# Altium schematic symbol library Bosch_Sensor.SchLib: 2 symbols
Pins are listed as number, name and electrical type; pins without a type are passive.

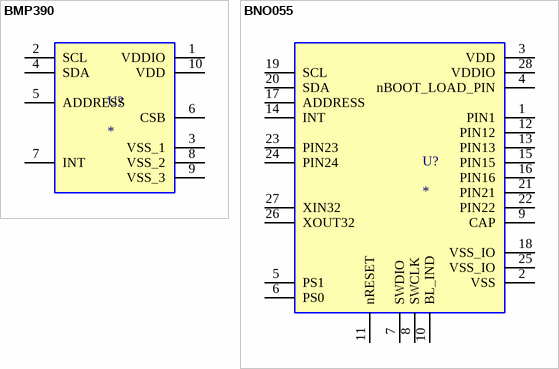
[diagram p0: symbols BMP390 to BNO055]

## BMP390
designator U?
SENSOR 18.13PSIA 10LGA; Manufacturer_Name: BOSCH; Manufacturer_Part_Number: BMP390; Description: Board Mount Pressure Sensors; Datasheet Link: https://www.bosch-sensortec.com/media/boschsensortec/downloads/datasheets/bst-bmp390-ds002.pdf; Height: 0.8mm; Mouser Part Number: 262-BMP390; Mouser Price/Stock: https://www.mouser.co.uk/ProductDetail/Bosch-Sensortec/BMP390?qs=QNEnbhJQKvYQVfvRMgo2YA%3D%3D; Arrow Part Number: BMP390; Arrow Price/Stock: https://www.arrow.com/en/products/bmp390/bosch-sensortec?utm_currency=USD&region=nac
pins: 1 VDDIO, 2 SCL, 3 VSS_1, 4 SDA, 5 ADDRESS, 6 CSB, 7 INT, 8 VSS_2, 9 VSS_3, 10 VDD
1 alternate drawing of the same symbol

## BNO055
designator U?
BNO055 9-axis Absolute Orientation Sensor ( SiP ) w/Sensors and Sensor Fusion; Package: None; Price: None; Value: *; MP: BNO055; Availability: Unavailable
pins: 1 PIN1, 2 VSS, 3 VDD, 4 nBOOT_LOAD_PIN, 5 PS1, 6 PS0, 7 SWDIO, 8 SWCLK, 9 CAP, 10 BL_IND, 11 nRESET, 12 PIN12, 13 PIN13, 14 INT, 15 PIN15, 16 PIN16, 17 ADDRESS, 18 VSS_IO, 19 SCL, 20 SDA, 21 PIN21, 22 PIN22, 23 PIN23, 24 PIN24, 25 VSS_IO, 26 XOUT32, 27 XIN32, 28 VDDIO